# Altium integrated library WE-PD_rev15b.intlib: 278 symbols (part 1 of 3)
Pins are listed as number, name and electrical type; pins without a type are passive.

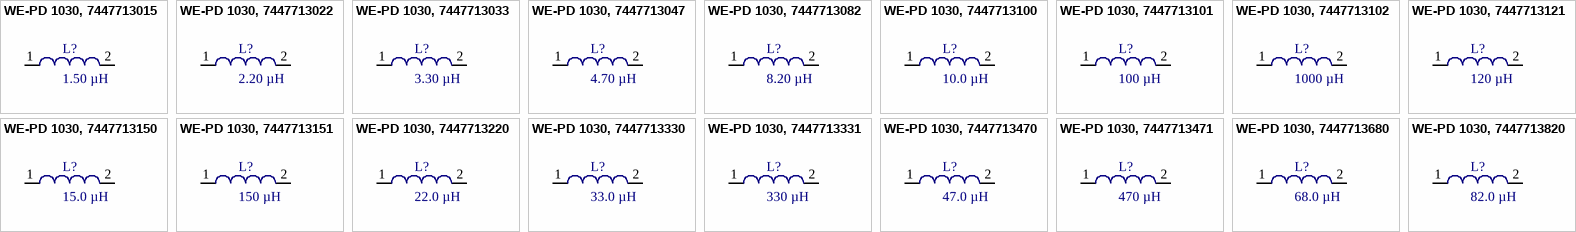
[diagram p0: symbols WE-PD 1030, 7447713015 to WE-PD 1030, 7447713820]

## WE-PD 1030, 7447713015
designator L?, comment 1.50 µH
SMD-Shielded Power Inductor WE-PD, L=1.50 µH; partNo: 7447713015; Manufacturer: Würth Elektronik eiSos GmbH; Inductance: 1.50 µH; ComponentLink1Description: Manufacturer; ComponentLink1URL: http://www.we-online.de; Created by: Christin Otto; Created Date: March 2013; ComponentLink2Description: Datasheet; ComponentLink2URL: http://www.we-online.de/katalog/media/pdf/7447713015.pdf
footprint WE-PD 1030 (SMD Inductor, 2-Leads, Body 10,0x10,0mm)
pins: 1, 2

## WE-PD 1030, 7447713022
designator L?, comment 2.20 µH
SMD-Shielded Power Inductor WE-PD, L=2.20 µH; partNo: 7447713022; Manufacturer: Würth Elektronik eiSos GmbH; Inductance: 2.20 µH; ComponentLink1Description: Manufacturer; ComponentLink1URL: http://www.we-online.de; Created by: Christin Otto; Created Date: March 2013; ComponentLink2Description: Datasheet; ComponentLink2URL: http://www.we-online.de/katalog/media/pdf/7447713022.pdf
footprint WE-PD 1030 (SMD Inductor, 2-Leads, Body 10,0x10,0mm)
pins: 1, 2

## WE-PD 1030, 7447713033
designator L?, comment 3.30 µH
SMD-Shielded Power Inductor WE-PD, L=3.30 µH; partNo: 7447713033; Manufacturer: Würth Elektronik eiSos GmbH; Inductance: 3.30 µH; ComponentLink1Description: Manufacturer; ComponentLink1URL: http://www.we-online.de; Created by: Christin Otto; Created Date: March 2013; ComponentLink2Description: Datasheet; ComponentLink2URL: http://www.we-online.de/katalog/media/pdf/7447713033.pdf
footprint WE-PD 1030 (SMD Inductor, 2-Leads, Body 10,0x10,0mm)
pins: 1, 2

## WE-PD 1030, 7447713047
designator L?, comment 4.70 µH
SMD-Shielded Power Inductor WE-PD, L=4.70 µH; partNo: 7447713047; Manufacturer: Würth Elektronik eiSos GmbH; Inductance: 4.70 µH; ComponentLink1Description: Manufacturer; ComponentLink1URL: http://www.we-online.de; Created by: Christin Otto; Created Date: March 2013; ComponentLink2Description: Datasheet; ComponentLink2URL: http://www.we-online.de/katalog/media/pdf/7447713047.pdf
footprint WE-PD 1030 (SMD Inductor, 2-Leads, Body 10,0x10,0mm)
pins: 1, 2

## WE-PD 1030, 7447713082
designator L?, comment 8.20 µH
SMD-Shielded Power Inductor WE-PD, L=8.20 µH; partNo: 7447713082; Manufacturer: Würth Elektronik eiSos GmbH; Inductance: 8.20 µH; ComponentLink1Description: Manufacturer; ComponentLink1URL: http://www.we-online.de; Created by: Christin Otto; Created Date: March 2013; ComponentLink2Description: Datasheet; ComponentLink2URL: http://www.we-online.de/katalog/media/pdf/7447713082.pdf
footprint WE-PD 1030 (SMD Inductor, 2-Leads, Body 10,0x10,0mm)
pins: 1, 2

## WE-PD 1030, 7447713100
designator L?, comment 10.0 µH
SMD-Shielded Power Inductor WE-PD, L=10.0 µH; partNo: 7447713100; Manufacturer: Würth Elektronik eiSos GmbH; Inductance: 10.0 µH; ComponentLink1Description: Manufacturer; ComponentLink1URL: http://www.we-online.de; Created by: Christin Otto; Created Date: March 2013; ComponentLink2Description: Datasheet; ComponentLink2URL: http://www.we-online.de/katalog/media/pdf/7447713100.pdf
footprint WE-PD 1030 (SMD Inductor, 2-Leads, Body 10,0x10,0mm)
pins: 1, 2

## WE-PD 1030, 7447713101
designator L?, comment 100 µH
SMD-Shielded Power Inductor WE-PD, L=100 µH; partNo: 7447713101; Manufacturer: Würth Elektronik eiSos GmbH; Inductance: 100 µH; ComponentLink1Description: Manufacturer; ComponentLink1URL: http://www.we-online.de; Created by: Christin Otto; Created Date: March 2013; ComponentLink2Description: Datasheet; ComponentLink2URL: http://www.we-online.de/katalog/media/pdf/7447713101.pdf
footprint WE-PD 1030 (SMD Inductor, 2-Leads, Body 10,0x10,0mm)
pins: 1, 2

## WE-PD 1030, 7447713102
designator L?, comment 1000 µH
SMD-Shielded Power Inductor WE-PD, L=1000 µH; partNo: 7447713102; Manufacturer: Würth Elektronik eiSos GmbH; Inductance: 1000 µH; ComponentLink1Description: Manufacturer; ComponentLink1URL: http://www.we-online.de; Created by: Christin Otto; Created Date: August 2013; ComponentLink2Description: Datasheet; ComponentLink2URL: http://www.we-online.de/katalog/media/pdf/7447713102.pdf
footprint WE-PD 1030 (SMD Inductor, 2-Leads, Body 10,0x10,0mm)
pins: 1, 2

## WE-PD 1030, 7447713121
designator L?, comment 120 µH
SMD-Shielded Power Inductor WE-PD, L=120 µH; partNo: 7447713121; Manufacturer: Würth Elektronik eiSos GmbH; Inductance: 120 µH; ComponentLink1Description: Manufacturer; ComponentLink1URL: http://www.we-online.de; Created by: Christin Otto; Created Date: March 2013; ComponentLink2Description: Datasheet; ComponentLink2URL: http://www.we-online.de/katalog/media/pdf/7447713121.pdf
footprint WE-PD 1030 (SMD Inductor, 2-Leads, Body 10,0x10,0mm)
pins: 1, 2

## WE-PD 1030, 7447713150
designator L?, comment 15.0 µH
SMD-Shielded Power Inductor WE-PD, L=15.0 µH; partNo: 7447713150; Manufacturer: Würth Elektronik eiSos GmbH; Inductance: 15.0 µH; ComponentLink1Description: Manufacturer; ComponentLink1URL: http://www.we-online.de; Created by: Christin Otto; Created Date: March 2013; ComponentLink2Description: Datasheet; ComponentLink2URL: http://www.we-online.de/katalog/media/pdf/7447713150.pdf
footprint WE-PD 1030 (SMD Inductor, 2-Leads, Body 10,0x10,0mm)
pins: 1, 2

## WE-PD 1030, 7447713151
designator L?, comment 150 µH
SMD-Shielded Power Inductor WE-PD, L=150 µH; partNo: 7447713151; Manufacturer: Würth Elektronik eiSos GmbH; Inductance: 150 µH; ComponentLink1Description: Manufacturer; ComponentLink1URL: http://www.we-online.de; Created by: Christin Otto; Created Date: March 2013; ComponentLink2Description: Datasheet; ComponentLink2URL: http://www.we-online.de/katalog/media/pdf/7447713151.pdf
footprint WE-PD 1030 (SMD Inductor, 2-Leads, Body 10,0x10,0mm)
pins: 1, 2

## WE-PD 1030, 7447713220
designator L?, comment 22.0 µH
SMD-Shielded Power Inductor WE-PD, L=22.0 µH; partNo: 7447713220; Manufacturer: Würth Elektronik eiSos GmbH; Inductance: 22.0 µH; ComponentLink1Description: Manufacturer; ComponentLink1URL: http://www.we-online.de; Created by: Christin Otto; Created Date: March 2013; ComponentLink2Description: Datasheet; ComponentLink2URL: http://www.we-online.de/katalog/media/pdf/7447713220.pdf
footprint WE-PD 1030 (SMD Inductor, 2-Leads, Body 10,0x10,0mm)
pins: 1, 2

## WE-PD 1030, 7447713330
designator L?, comment 33.0 µH
SMD-Shielded Power Inductor WE-PD, L=33.0 µH; partNo: 7447713330; Manufacturer: Würth Elektronik eiSos GmbH; Inductance: 33.0 µH; ComponentLink1Description: Manufacturer; ComponentLink1URL: http://www.we-online.de; Created by: Christin Otto; Created Date: March 2013; ComponentLink2Description: Datasheet; ComponentLink2URL: http://www.we-online.de/katalog/media/pdf/7447713330.pdf
footprint WE-PD 1030 (SMD Inductor, 2-Leads, Body 10,0x10,0mm)
pins: 1, 2

## WE-PD 1030, 7447713331
designator L?, comment 330 µH
SMD-Shielded Power Inductor WE-PD, L=330 µH; partNo: 7447713331; Manufacturer: Würth Elektronik eiSos GmbH; Inductance: 330 µH; ComponentLink1Description: Manufacturer; ComponentLink1URL: http://www.we-online.de; Created by: Christin Otto; Created Date: August 2013; ComponentLink2Description: Datasheet; ComponentLink2URL: http://www.we-online.de/katalog/media/pdf/7447713331.pdf
footprint WE-PD 1030 (SMD Inductor, 2-Leads, Body 10,0x10,0mm)
pins: 1, 2

## WE-PD 1030, 7447713470
designator L?, comment 47.0 µH
SMD-Shielded Power Inductor WE-PD, L=47.0 µH; partNo: 7447713470; Manufacturer: Würth Elektronik eiSos GmbH; Inductance: 47.0 µH; ComponentLink1Description: Manufacturer; ComponentLink1URL: http://www.we-online.de; Created by: Christin Otto; Created Date: March 2013; ComponentLink2Description: Datasheet; ComponentLink2URL: http://www.we-online.de/katalog/media/pdf/7447713470.pdf
footprint WE-PD 1030 (SMD Inductor, 2-Leads, Body 10,0x10,0mm)
pins: 1, 2

## WE-PD 1030, 7447713471
designator L?, comment 470 µH
SMD-Shielded Power Inductor WE-PD, L=470 µH; partNo: 7447713471; Manufacturer: Würth Elektronik eiSos GmbH; Inductance: 470 µH; ComponentLink1Description: Manufacturer; ComponentLink1URL: http://www.we-online.de; Created by: Christin Otto; Created Date: August 2013; ComponentLink2Description: Datasheet; ComponentLink2URL: http://www.we-online.de/katalog/media/pdf/7447713471.pdf
footprint WE-PD 1030 (SMD Inductor, 2-Leads, Body 10,0x10,0mm)
pins: 1, 2

## WE-PD 1030, 7447713680
designator L?, comment 68.0 µH
SMD-Shielded Power Inductor WE-PD, L=68.0 µH; partNo: 7447713680; Manufacturer: Würth Elektronik eiSos GmbH; Inductance: 68.0 µH; ComponentLink1Description: Manufacturer; ComponentLink1URL: http://www.we-online.de; Created by: Christin Otto; Created Date: March 2013; ComponentLink2Description: Datasheet; ComponentLink2URL: http://www.we-online.de/katalog/media/pdf/7447713680.pdf
footprint WE-PD 1030 (SMD Inductor, 2-Leads, Body 10,0x10,0mm)
pins: 1, 2

## WE-PD 1030, 7447713820
designator L?, comment 82.0 µH
SMD-Shielded Power Inductor WE-PD, L=82.0 µH; partNo: 7447713820; Manufacturer: Würth Elektronik eiSos GmbH; Inductance: 82.0 µH; ComponentLink1Description: Manufacturer; ComponentLink1URL: http://www.we-online.de; Created by: Christin Otto; Created Date: March 2013; ComponentLink2Description: Datasheet; ComponentLink2URL: http://www.we-online.de/katalog/media/pdf/7447713820.pdf
footprint WE-PD 1030 (SMD Inductor, 2-Leads, Body 10,0x10,0mm)
pins: 1, 2


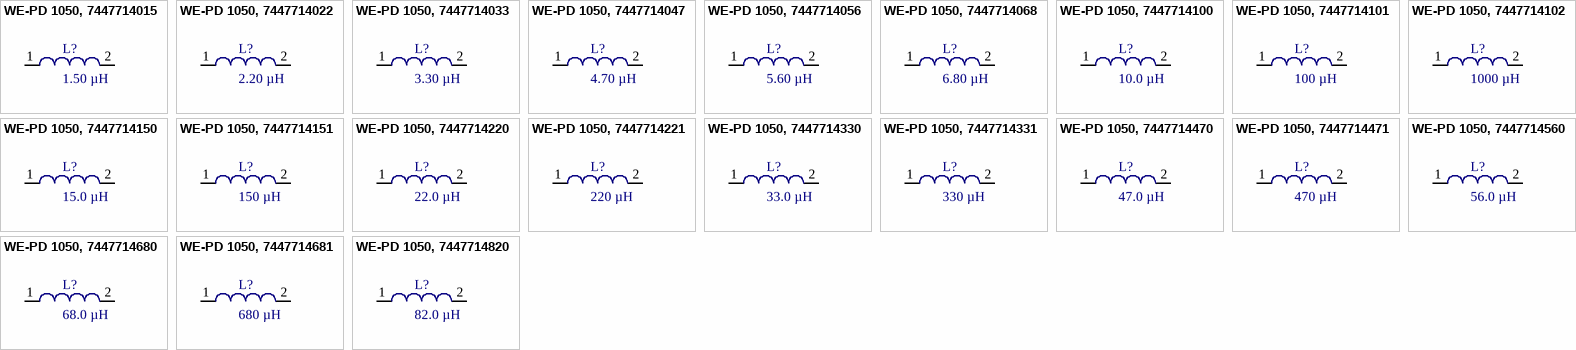
[diagram p1: symbols WE-PD 1050, 7447714015 to WE-PD 1050, 7447714820]

## WE-PD 1050, 7447714015
designator L?, comment 1.50 µH
SMD-Shielded Power Inductor WE-PD, L=1.50 µH; partNo: 7447714015; Manufacturer: Würth Elektronik eiSos GmbH; Inductance: 1.50 µH; ComponentLink1Description: Manufacturer; ComponentLink1URL: http://www.we-online.de; Created by: Christin Otto; Created Date: March 2013; ComponentLink2Description: Datasheet; ComponentLink2URL: http://www.we-online.de/katalog/media/pdf/7447714015.pdf
footprint WE-PD 1050 (SMD Inductor, 2-Leads, Body 10,0x10,0mm)
pins: 1, 2

## WE-PD 1050, 7447714022
designator L?, comment 2.20 µH
SMD-Shielded Power Inductor WE-PD, L=2.20 µH; partNo: 7447714022; Manufacturer: Würth Elektronik eiSos GmbH; Inductance: 2.20 µH; ComponentLink1Description: Manufacturer; ComponentLink1URL: http://www.we-online.de; Created by: Christin Otto; Created Date: March 2013; ComponentLink2Description: Datasheet; ComponentLink2URL: http://www.we-online.de/katalog/media/pdf/7447714022.pdf
footprint WE-PD 1050 (SMD Inductor, 2-Leads, Body 10,0x10,0mm)
pins: 1, 2

## WE-PD 1050, 7447714033
designator L?, comment 3.30 µH
SMD-Shielded Power Inductor WE-PD, L=3.30 µH; partNo: 7447714033; Manufacturer: Würth Elektronik eiSos GmbH; Inductance: 3.30 µH; ComponentLink1Description: Manufacturer; ComponentLink1URL: http://www.we-online.de; Created by: Christin Otto; Created Date: March 2013; ComponentLink2Description: Datasheet; ComponentLink2URL: http://www.we-online.de/katalog/media/pdf/7447714033.pdf
footprint WE-PD 1050 (SMD Inductor, 2-Leads, Body 10,0x10,0mm)
pins: 1, 2

## WE-PD 1050, 7447714047
designator L?, comment 4.70 µH
SMD-Shielded Power Inductor WE-PD, L=4.70 µH; partNo: 7447714047; Manufacturer: Würth Elektronik eiSos GmbH; Inductance: 4.70 µH; ComponentLink1Description: Manufacturer; ComponentLink1URL: http://www.we-online.de; Created by: Christin Otto; Created Date: March 2013; ComponentLink2Description: Datasheet; ComponentLink2URL: http://www.we-online.de/katalog/media/pdf/7447714047.pdf
footprint WE-PD 1050 (SMD Inductor, 2-Leads, Body 10,0x10,0mm)
pins: 1, 2

## WE-PD 1050, 7447714056
designator L?, comment 5.60 µH
SMD-Shielded Power Inductor WE-PD, L=5.60 µH; partNo: 7447714056; Manufacturer: Würth Elektronik eiSos GmbH; Inductance: 5.60 µH; ComponentLink1Description: Manufacturer; ComponentLink1URL: http://www.we-online.de; Created by: Christin Otto; Created Date: March 2013; ComponentLink2Description: Datasheet; ComponentLink2URL: http://www.we-online.de/katalog/media/pdf/7447714056.pdf
footprint WE-PD 1050 (SMD Inductor, 2-Leads, Body 10,0x10,0mm)
pins: 1, 2

## WE-PD 1050, 7447714068
designator L?, comment 6.80 µH
SMD-Shielded Power Inductor WE-PD, L=6.80 µH; partNo: 7447714068; Manufacturer: Würth Elektronik eiSos GmbH; Inductance: 6.80 µH; ComponentLink1Description: Manufacturer; ComponentLink1URL: http://www.we-online.de; Created by: Christin Otto; Created Date: August 2013; ComponentLink2Description: Datasheet; ComponentLink2URL: http://www.we-online.de/katalog/media/pdf/7447714068.pdf
footprint WE-PD 1050 (SMD Inductor, 2-Leads, Body 10,0x10,0mm)
pins: 1, 2

## WE-PD 1050, 7447714100
designator L?, comment 10.0 µH
SMD-Shielded Power Inductor WE-PD, L=10.0 µH; partNo: 7447714100; Manufacturer: Würth Elektronik eiSos GmbH; Inductance: 10.0 µH; ComponentLink1Description: Manufacturer; ComponentLink1URL: http://www.we-online.de; Created by: Christin Otto; Created Date: March 2013; ComponentLink2Description: Datasheet; ComponentLink2URL: http://www.we-online.de/katalog/media/pdf/7447714100.pdf
footprint WE-PD 1050 (SMD Inductor, 2-Leads, Body 10,0x10,0mm)
pins: 1, 2

## WE-PD 1050, 7447714101
designator L?, comment 100 µH
SMD-Shielded Power Inductor WE-PD, L=100 µH; partNo: 7447714101; Manufacturer: Würth Elektronik eiSos GmbH; Inductance: 100 µH; ComponentLink1Description: Manufacturer; ComponentLink1URL: http://www.we-online.de; Created by: Christin Otto; Created Date: March 2013; ComponentLink2Description: Datasheet; ComponentLink2URL: http://www.we-online.de/katalog/media/pdf/7447714101.pdf
footprint WE-PD 1050 (SMD Inductor, 2-Leads, Body 10,0x10,0mm)
pins: 1, 2

## WE-PD 1050, 7447714102
designator L?, comment 1000 µH
SMD-Shielded Power Inductor WE-PD, L=1000 µH; partNo: 7447714102; Manufacturer: Würth Elektronik eiSos GmbH; Inductance: 1000 µH; ComponentLink1Description: Manufacturer; ComponentLink1URL: http://www.we-online.de; Created by: Christin Otto; Created Date: March 2013; ComponentLink2Description: Datasheet; ComponentLink2URL: http://www.we-online.de/katalog/media/pdf/7447714102.pdf
footprint WE-PD 1050 (SMD Inductor, 2-Leads, Body 10,0x10,0mm)
pins: 1, 2

## WE-PD 1050, 7447714150
designator L?, comment 15.0 µH
SMD-Shielded Power Inductor WE-PD, L=15.0 µH; partNo: 7447714150; Manufacturer: Würth Elektronik eiSos GmbH; Inductance: 15.0 µH; ComponentLink1Description: Manufacturer; ComponentLink1URL: http://www.we-online.de; Created by: Christin Otto; Created Date: March 2013; ComponentLink2Description: Datasheet; ComponentLink2URL: http://www.we-online.de/katalog/media/pdf/7447714150.pdf
footprint WE-PD 1050 (SMD Inductor, 2-Leads, Body 10,0x10,0mm)
pins: 1, 2

## WE-PD 1050, 7447714151
designator L?, comment 150 µH
SMD-Shielded Power Inductor WE-PD, L=150 µH; partNo: 7447714151; Manufacturer: Würth Elektronik eiSos GmbH; Inductance: 150 µH; ComponentLink1Description: Manufacturer; ComponentLink1URL: http://www.we-online.de; Created by: Christin Otto; Created Date: March 2013; ComponentLink2Description: Datasheet; ComponentLink2URL: http://www.we-online.de/katalog/media/pdf/7447714151.pdf
footprint WE-PD 1050 (SMD Inductor, 2-Leads, Body 10,0x10,0mm)
pins: 1, 2

## WE-PD 1050, 7447714220
designator L?, comment 22.0 µH
SMD-Shielded Power Inductor WE-PD, L=22.0 µH; partNo: 7447714220; Manufacturer: Würth Elektronik eiSos GmbH; Inductance: 22.0 µH; ComponentLink1Description: Manufacturer; ComponentLink1URL: http://www.we-online.de; Created by: Christin Otto; Created Date: March 2013; ComponentLink2Description: Datasheet; ComponentLink2URL: http://www.we-online.de/katalog/media/pdf/7447714220.pdf
footprint WE-PD 1050 (SMD Inductor, 2-Leads, Body 10,0x10,0mm)
pins: 1, 2

## WE-PD 1050, 7447714221
designator L?, comment 220 µH
SMD-Shielded Power Inductor WE-PD, L=220 µH; partNo: 7447714221; Manufacturer: Würth Elektronik eiSos GmbH; Inductance: 220 µH; ComponentLink1Description: Manufacturer; ComponentLink1URL: http://www.we-online.de; Created by: Christin Otto; Created Date: March 2013; ComponentLink2Description: Datasheet; ComponentLink2URL: http://www.we-online.de/katalog/media/pdf/7447714221.pdf
footprint WE-PD 1050 (SMD Inductor, 2-Leads, Body 10,0x10,0mm)
pins: 1, 2

## WE-PD 1050, 7447714330
designator L?, comment 33.0 µH
SMD-Shielded Power Inductor WE-PD, L=33.0 µH; partNo: 7447714330; Manufacturer: Würth Elektronik eiSos GmbH; Inductance: 33.0 µH; ComponentLink1Description: Manufacturer; ComponentLink1URL: http://www.we-online.de; Created by: Christin Otto; Created Date: March 2013; ComponentLink2Description: Datasheet; ComponentLink2URL: http://www.we-online.de/katalog/media/pdf/7447714330.pdf
footprint WE-PD 1050 (SMD Inductor, 2-Leads, Body 10,0x10,0mm)
pins: 1, 2

## WE-PD 1050, 7447714331
designator L?, comment 330 µH
SMD-Shielded Power Inductor WE-PD, L=330 µH; partNo: 7447714331; Manufacturer: Würth Elektronik eiSos GmbH; Inductance: 330 µH; ComponentLink1Description: Manufacturer; ComponentLink1URL: http://www.we-online.de; Created by: Christin Otto; Created Date: March 2013; ComponentLink2Description: Datasheet; ComponentLink2URL: http://www.we-online.de/katalog/media/pdf/7447714331.pdf
footprint WE-PD 1050 (SMD Inductor, 2-Leads, Body 10,0x10,0mm)
pins: 1, 2

## WE-PD 1050, 7447714470
designator L?, comment 47.0 µH
SMD-Shielded Power Inductor WE-PD, L=47.0 µH; partNo: 7447714470; Manufacturer: Würth Elektronik eiSos GmbH; Inductance: 47.0 µH; ComponentLink1Description: Manufacturer; ComponentLink1URL: http://www.we-online.de; Created by: Christin Otto; Created Date: March 2013; ComponentLink2Description: Datasheet; ComponentLink2URL: http://www.we-online.de/katalog/media/pdf/7447714470.pdf
footprint WE-PD 1050 (SMD Inductor, 2-Leads, Body 10,0x10,0mm)
pins: 1, 2

## WE-PD 1050, 7447714471
designator L?, comment 470 µH
SMD-Shielded Power Inductor WE-PD, L=470 µH; partNo: 7447714471; Manufacturer: Würth Elektronik eiSos GmbH; Inductance: 470 µH; ComponentLink1Description: Manufacturer; ComponentLink1URL: http://www.we-online.de; Created by: Christin Otto; Created Date: March 2013; ComponentLink2Description: Datasheet; ComponentLink2URL: http://www.we-online.de/katalog/media/pdf/7447714471.pdf
footprint WE-PD 1050 (SMD Inductor, 2-Leads, Body 10,0x10,0mm)
pins: 1, 2

## WE-PD 1050, 7447714560
designator L?, comment 56.0 µH
SMD-Shielded Power Inductor WE-PD, L=56.0 µH; partNo: 7447714560; Manufacturer: Würth Elektronik eiSos GmbH; Inductance: 56.0 µH; ComponentLink1Description: Manufacturer; ComponentLink1URL: http://www.we-online.de; Created by: Christin Otto; Created Date: March 2013; ComponentLink2Description: Datasheet; ComponentLink2URL: http://www.we-online.de/katalog/media/pdf/7447714560.pdf
footprint WE-PD 1050 (SMD Inductor, 2-Leads, Body 10,0x10,0mm)
pins: 1, 2

## WE-PD 1050, 7447714680
designator L?, comment 68.0 µH
SMD-Shielded Power Inductor WE-PD, L=68.0 µH; partNo: 7447714680; Manufacturer: Würth Elektronik eiSos GmbH; Inductance: 68.0 µH; ComponentLink1Description: Manufacturer; ComponentLink1URL: http://www.we-online.de; Created by: Christin Otto; Created Date: March 2013; ComponentLink2Description: Datasheet; ComponentLink2URL: http://www.we-online.de/katalog/media/pdf/7447714680.pdf
footprint WE-PD 1050 (SMD Inductor, 2-Leads, Body 10,0x10,0mm)
pins: 1, 2

## WE-PD 1050, 7447714681
designator L?, comment 680 µH
SMD-Shielded Power Inductor WE-PD, L=680 µH; partNo: 7447714681; Manufacturer: Würth Elektronik eiSos GmbH; Inductance: 680 µH; ComponentLink1Description: Manufacturer; ComponentLink1URL: http://www.we-online.de; Created by: Christin Otto; Created Date: March 2013; ComponentLink2Description: Datasheet; ComponentLink2URL: http://www.we-online.de/katalog/media/pdf/7447714681.pdf
footprint WE-PD 1050 (SMD Inductor, 2-Leads, Body 10,0x10,0mm)
pins: 1, 2

## WE-PD 1050, 7447714820
designator L?, comment 82.0 µH
SMD-Shielded Power Inductor WE-PD, L=82.0 µH; partNo: 7447714820; Manufacturer: Würth Elektronik eiSos GmbH; Inductance: 82.0 µH; ComponentLink1Description: Manufacturer; ComponentLink1URL: http://www.we-online.de; Created by: Christin Otto; Created Date: March 2013; ComponentLink2Description: Datasheet; ComponentLink2URL: http://www.we-online.de/katalog/media/pdf/7447714820.pdf
footprint WE-PD 1050 (SMD Inductor, 2-Leads, Body 10,0x10,0mm)
pins: 1, 2


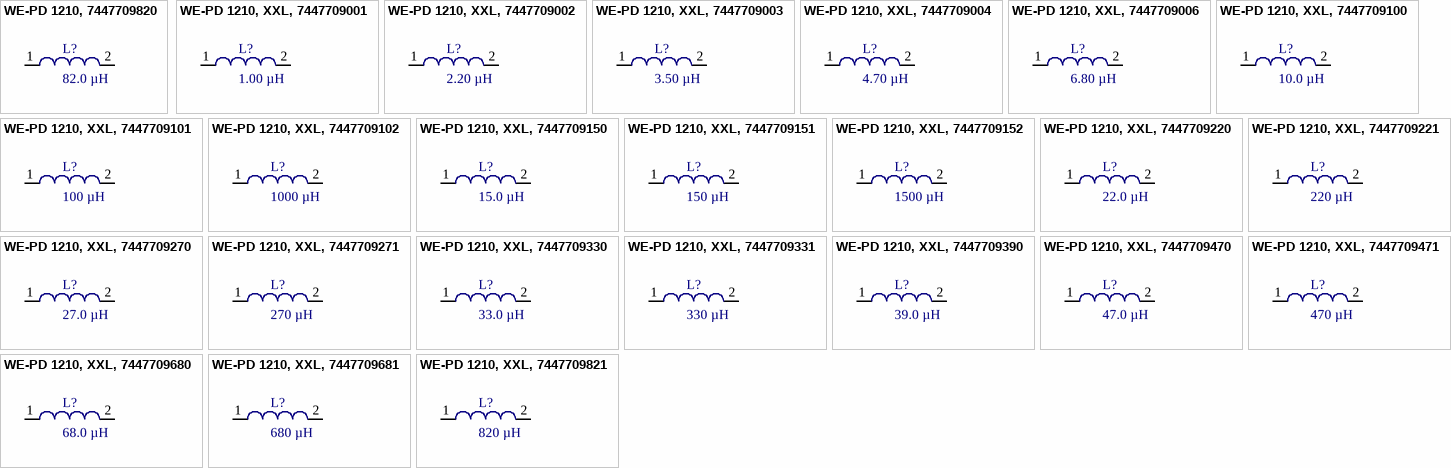
[diagram p2: symbols WE-PD 1210, 7447709820 to WE-PD 1210, XXL, 7447709821]

## WE-PD 1210, 7447709820
designator L?, comment 82.0 µH
SMD-Shielded Power Inductor WE-PD, L=82.0 µH; partNo: 7447709820; Manufacturer: Würth Elektronik eiSos GmbH; Inductance: 82.0 µH; ComponentLink1Description: Manufacturer; ComponentLink1URL: http://www.we-online.de; Created by: Christin Otto; Created Date: March 2013; ComponentLink2Description: Datasheet; ComponentLink2URL: http://www.we-online.de/katalog/media/pdf/7447709820.pdf
footprint WE-PD 1210 (SMD Inductor, 2-Leads, Body 12,0x12,0mm)
pins: 1, 2

## WE-PD 1210, XXL, 7447709001
designator L?, comment 1.00 µH
SMD-Shielded Power Inductor WE-PD, L=1.00 µH; partNo: 7447709001; Manufacturer: Würth Elektronik eiSos GmbH; Inductance: 1.00 µH; ComponentLink1Description: Manufacturer; ComponentLink1URL: http://www.we-online.de; Created by: Christin Zierenner; Created Date: June 2009; ComponentLink2Description: Datasheet; ComponentLink2URL: http://www.we-online.de/katalog/media/pdf/7447709001.pdf
footprint WE-PD 1210 (SMD Inductor, 2-Leads, Body 12,0x12,0mm)
pins: 1, 2

## WE-PD 1210, XXL, 7447709002
designator L?, comment 2.20 µH
SMD-Shielded Power Inductor WE-PD, L=2.20 µH; partNo: 7447709002; Manufacturer: Würth Elektronik eiSos GmbH; Inductance: 2.20 µH; ComponentLink1Description: Manufacturer; ComponentLink1URL: http://www.we-online.de; Created by: Christin Zierenner; Created Date: June 2009; ComponentLink2Description: Datasheet; ComponentLink2URL: http://www.we-online.de/katalog/media/pdf/7447709002.pdf
footprint WE-PD 1210 (SMD Inductor, 2-Leads, Body 12,0x12,0mm)
pins: 1, 2

## WE-PD 1210, XXL, 7447709003
designator L?, comment 3.50 µH
SMD-Shielded Power Inductor WE-PD, L=3.50 µH; partNo: 7447709003; Manufacturer: Würth Elektronik eiSos GmbH; Inductance: 3.50 µH; ComponentLink1Description: Manufacturer; ComponentLink1URL: http://www.we-online.de; Created by: Christin Zierenner; Created Date: June 2009; ComponentLink2Description: Datasheet; ComponentLink2URL: http://www.we-online.de/katalog/media/pdf/7447709003.pdf
footprint WE-PD 1210 (SMD Inductor, 2-Leads, Body 12,0x12,0mm)
pins: 1, 2

## WE-PD 1210, XXL, 7447709004
designator L?, comment 4.70 µH
SMD-Shielded Power Inductor WE-PD, L=4.70 µH; partNo: 7447709004; Manufacturer: Würth Elektronik eiSos GmbH; Inductance: 4.70 µH; ComponentLink1Description: Manufacturer; ComponentLink1URL: http://www.we-online.de; Created by: Christin Zierenner; Created Date: June 2009; ComponentLink2Description: Datasheet; ComponentLink2URL: http://www.we-online.de/katalog/media/pdf/7447709004.pdf
footprint WE-PD 1210 (SMD Inductor, 2-Leads, Body 12,0x12,0mm)
pins: 1, 2

## WE-PD 1210, XXL, 7447709006
designator L?, comment 6.80 µH
SMD-Shielded Power Inductor WE-PD, L=6.80 µH; partNo: 7447709006; Manufacturer: Würth Elektronik eiSos GmbH; Inductance: 6.80 µH; ComponentLink1Description: Manufacturer; ComponentLink1URL: http://www.we-online.de; Created by: Christin Zierenner; Created Date: June 2009; ComponentLink2Description: Datasheet; ComponentLink2URL: http://www.we-online.de/katalog/media/pdf/7447709006.pdf
footprint WE-PD 1210 (SMD Inductor, 2-Leads, Body 12,0x12,0mm)
pins: 1, 2

## WE-PD 1210, XXL, 7447709100
designator L?, comment 10.0 µH
SMD-Shielded Power Inductor WE-PD, L=10.0 µH; partNo: 7447709100; Manufacturer: Würth Elektronik eiSos GmbH; Inductance: 10.0 µH; ComponentLink1Description: Manufacturer; ComponentLink1URL: http://www.we-online.de; Created by: Christin Zierenner; Created Date: June 2009; ComponentLink2Description: Datasheet; ComponentLink2URL: http://www.we-online.de/katalog/media/pdf/7447709100.pdf
footprint WE-PD 1210 (SMD Inductor, 2-Leads, Body 12,0x12,0mm)
pins: 1, 2

## WE-PD 1210, XXL, 7447709101
designator L?, comment 100 µH
SMD-Shielded Power Inductor WE-PD, L=100 µH; partNo: 7447709101; Manufacturer: Würth Elektronik eiSos GmbH; Inductance: 100 µH; ComponentLink1Description: Manufacturer; ComponentLink1URL: http://www.we-online.de; Created by: Christin Zierenner; Created Date: June 2009; ComponentLink2Description: Datasheet; ComponentLink2URL: http://www.we-online.de/katalog/media/pdf/7447709101.pdf
footprint WE-PD 1210 (SMD Inductor, 2-Leads, Body 12,0x12,0mm)
pins: 1, 2

## WE-PD 1210, XXL, 7447709102
designator L?, comment 1000 µH
SMD-Shielded Power Inductor WE-PD, L=1000 µH; partNo: 7447709102; Manufacturer: Würth Elektronik eiSos GmbH; Inductance: 1000 µH; ComponentLink1Description: Manufacturer; ComponentLink1URL: http://www.we-online.de; Created by: Christin Zierenner; Created Date: June 2009; ComponentLink2Description: Datasheet; ComponentLink2URL: http://www.we-online.de/katalog/media/pdf/7447709102.pdf
footprint WE-PD 1210 (SMD Inductor, 2-Leads, Body 12,0x12,0mm)
pins: 1, 2

## WE-PD 1210, XXL, 7447709150
designator L?, comment 15.0 µH
SMD-Shielded Power Inductor WE-PD, L=15.0 µH; partNo: 7447709150; Manufacturer: Würth Elektronik eiSos GmbH; Inductance: 15.0 µH; ComponentLink1Description: Manufacturer; ComponentLink1URL: http://www.we-online.de; Created by: Christin Zierenner; Created Date: June 2009; ComponentLink2Description: Datasheet; ComponentLink2URL: http://www.we-online.de/katalog/media/pdf/7447709150.pdf
footprint WE-PD 1210 (SMD Inductor, 2-Leads, Body 12,0x12,0mm)
pins: 1, 2

## WE-PD 1210, XXL, 7447709151
designator L?, comment 150 µH
SMD-Shielded Power Inductor WE-PD, L=150 µH; partNo: 7447709151; Manufacturer: Würth Elektronik eiSos GmbH; Inductance: 150 µH; ComponentLink1Description: Manufacturer; ComponentLink1URL: http://www.we-online.de; Created by: Christin Zierenner; Created Date: June 2009; ComponentLink2Description: Datasheet; ComponentLink2URL: http://www.we-online.de/katalog/media/pdf/7447709151.pdf
footprint WE-PD 1210 (SMD Inductor, 2-Leads, Body 12,0x12,0mm)
pins: 1, 2

## WE-PD 1210, XXL, 7447709152
designator L?, comment 1500 µH
SMD-Shielded Power Inductor WE-PD, L=1500 µH; partNo: 7447709152; Manufacturer: Würth Elektronik eiSos GmbH; Inductance: 1500 µH; ComponentLink1Description: Manufacturer; ComponentLink1URL: http://www.we-online.de; Created by: Christin Zierenner; Created Date: June 2009; ComponentLink2Description: Datasheet; ComponentLink2URL: http://www.we-online.de/katalog/media/pdf/7447709152.pdf
footprint WE-PD 1210 (SMD Inductor, 2-Leads, Body 12,0x12,0mm)
pins: 1, 2

## WE-PD 1210, XXL, 7447709220
designator L?, comment 22.0 µH
SMD-Shielded Power Inductor WE-PD, L=22.0 µH; partNo: 7447709220; Manufacturer: Würth Elektronik eiSos GmbH; Inductance: 22.0 µH; ComponentLink1Description: Manufacturer; ComponentLink1URL: http://www.we-online.de; Created by: Christin Zierenner; Created Date: June 2009; ComponentLink2Description: Datasheet; ComponentLink2URL: http://www.we-online.de/katalog/media/pdf/7447709220.pdf
footprint WE-PD 1210 (SMD Inductor, 2-Leads, Body 12,0x12,0mm)
pins: 1, 2

## WE-PD 1210, XXL, 7447709221
designator L?, comment 220 µH
SMD-Shielded Power Inductor WE-PD, L=220 µH; partNo: 7447709221; Manufacturer: Würth Elektronik eiSos GmbH; Inductance: 220 µH; ComponentLink1Description: Manufacturer; ComponentLink1URL: http://www.we-online.de; Created by: Christin Zierenner; Created Date: June 2009; ComponentLink2Description: Datasheet; ComponentLink2URL: http://www.we-online.de/katalog/media/pdf/7447709221.pdf
footprint WE-PD 1210 (SMD Inductor, 2-Leads, Body 12,0x12,0mm)
pins: 1, 2

## WE-PD 1210, XXL, 7447709270
designator L?, comment 27.0 µH
SMD-Shielded Power Inductor WE-PD, L=27.0 µH; partNo: 7447709270; Manufacturer: Würth Elektronik eiSos GmbH; Inductance: 27.0 µH; ComponentLink1Description: Manufacturer; ComponentLink1URL: http://www.we-online.de; Created by: Christin Zierenner; Created Date: June 2009; ComponentLink2Description: Datasheet; ComponentLink2URL: http://www.we-online.de/katalog/media/pdf/7447709270.pdf
footprint WE-PD 1210 (SMD Inductor, 2-Leads, Body 12,0x12,0mm)
pins: 1, 2

## WE-PD 1210, XXL, 7447709271
designator L?, comment 270 µH
SMD-Shielded Power Inductor WE-PD, L=270 µH; partNo: 7447709271; Manufacturer: Würth Elektronik eiSos GmbH; Inductance: 270 µH; ComponentLink1Description: Manufacturer; ComponentLink1URL: http://www.we-online.de; Created by: Christin Zierenner; Created Date: June 2009; ComponentLink2Description: Datasheet; ComponentLink2URL: http://www.we-online.de/katalog/media/pdf/7447709271.pdf
footprint WE-PD 1210 (SMD Inductor, 2-Leads, Body 12,0x12,0mm)
pins: 1, 2

## WE-PD 1210, XXL, 7447709330
designator L?, comment 33.0 µH
SMD-Shielded Power Inductor WE-PD, L=33.0 µH; partNo: 7447709330; Manufacturer: Würth Elektronik eiSos GmbH; Inductance: 33.0 µH; ComponentLink1Description: Manufacturer; ComponentLink1URL: http://www.we-online.de; Created by: Christin Zierenner; Created Date: June 2009; ComponentLink2Description: Datasheet; ComponentLink2URL: http://www.we-online.de/katalog/media/pdf/7447709330.pdf
footprint WE-PD 1210 (SMD Inductor, 2-Leads, Body 12,0x12,0mm)
pins: 1, 2

## WE-PD 1210, XXL, 7447709331
designator L?, comment 330 µH
SMD-Shielded Power Inductor WE-PD, L=330 µH; partNo: 7447709331; Manufacturer: Würth Elektronik eiSos GmbH; Inductance: 330 µH; ComponentLink1Description: Manufacturer; ComponentLink1URL: http://www.we-online.de; Created by: Christin Zierenner; Created Date: June 2009; ComponentLink2Description: Datasheet; ComponentLink2URL: http://www.we-online.de/katalog/media/pdf/7447709331.pdf
footprint WE-PD 1210 (SMD Inductor, 2-Leads, Body 12,0x12,0mm)
pins: 1, 2

## WE-PD 1210, XXL, 7447709390
designator L?, comment 39.0 µH
SMD-Shielded Power Inductor WE-PD, L=39.0 µH; partNo: 7447709390; Manufacturer: Würth Elektronik eiSos GmbH; Inductance: 39.0 µH; ComponentLink1Description: Manufacturer; ComponentLink1URL: http://www.we-online.de; Created by: Christin Zierenner; Created Date: June 2009; ComponentLink2Description: Datasheet; ComponentLink2URL: http://www.we-online.de/katalog/media/pdf/7447709390.pdf
footprint WE-PD 1210 (SMD Inductor, 2-Leads, Body 12,0x12,0mm)
pins: 1, 2

## WE-PD 1210, XXL, 7447709470
designator L?, comment 47.0 µH
SMD-Shielded Power Inductor WE-PD, L=47.0 µH; partNo: 7447709470; Manufacturer: Würth Elektronik eiSos GmbH; Inductance: 47.0 µH; ComponentLink1Description: Manufacturer; ComponentLink1URL: http://www.we-online.de; Created by: Christin Zierenner; Created Date: June 2009; ComponentLink2Description: Datasheet; ComponentLink2URL: http://www.we-online.de/katalog/media/pdf/7447709470.pdf
footprint WE-PD 1210 (SMD Inductor, 2-Leads, Body 12,0x12,0mm)
pins: 1, 2

## WE-PD 1210, XXL, 7447709471
designator L?, comment 470 µH
SMD-Shielded Power Inductor WE-PD, L=470 µH; partNo: 7447709471; Manufacturer: Würth Elektronik eiSos GmbH; Inductance: 470 µH; ComponentLink1Description: Manufacturer; ComponentLink1URL: http://www.we-online.de; Created by: Christin Zierenner; Created Date: June 2009; ComponentLink2Description: Datasheet; ComponentLink2URL: http://www.we-online.de/katalog/media/pdf/7447709471.pdf
footprint WE-PD 1210 (SMD Inductor, 2-Leads, Body 12,0x12,0mm)
pins: 1, 2

## WE-PD 1210, XXL, 7447709680
designator L?, comment 68.0 µH
SMD-Shielded Power Inductor WE-PD, L=68.0 µH; partNo: 7447709680; Manufacturer: Würth Elektronik eiSos GmbH; Inductance: 68.0 µH; ComponentLink1Description: Manufacturer; ComponentLink1URL: http://www.we-online.de; Created by: Christin Zierenner; Created Date: June 2009; ComponentLink2Description: Datasheet; ComponentLink2URL: http://www.we-online.de/katalog/media/pdf/7447709680.pdf
footprint WE-PD 1210 (SMD Inductor, 2-Leads, Body 12,0x12,0mm)
pins: 1, 2

## WE-PD 1210, XXL, 7447709681
designator L?, comment 680 µH
SMD-Shielded Power Inductor WE-PD, L=680 µH; partNo: 7447709681; Manufacturer: Würth Elektronik eiSos GmbH; Inductance: 680 µH; ComponentLink1Description: Manufacturer; ComponentLink1URL: http://www.we-online.de; Created by: Christin Zierenner; Created Date: June 2009; ComponentLink2Description: Datasheet; ComponentLink2URL: http://www.we-online.de/katalog/media/pdf/7447709681.pdf
footprint WE-PD 1210 (SMD Inductor, 2-Leads, Body 12,0x12,0mm)
pins: 1, 2

## WE-PD 1210, XXL, 7447709821
designator L?, comment 820 µH
SMD-Shielded Power Inductor WE-PD, L=820 µH; partNo: 7447709821; Manufacturer: Würth Elektronik eiSos GmbH; Inductance: 820 µH; ComponentLink1Description: Manufacturer; ComponentLink1URL: http://www.we-online.de; Created by: Christin Zierenner; Created Date: June 2009; ComponentLink2Description: Datasheet; ComponentLink2URL: http://www.we-online.de/katalog/media/pdf/7447709821.pdf
footprint WE-PD 1210 (SMD Inductor, 2-Leads, Body 12,0x12,0mm)
pins: 1, 2


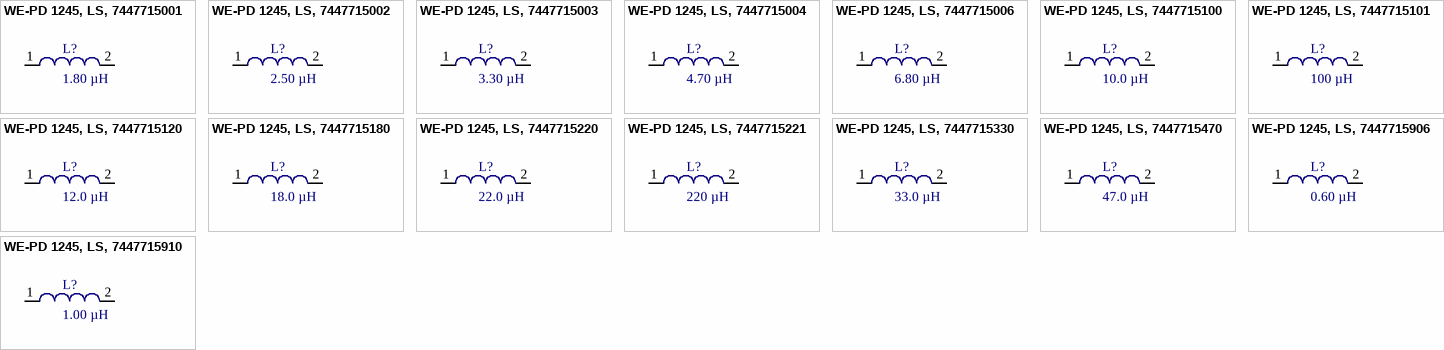
[diagram p3: symbols WE-PD 1245, LS, 7447715001 to WE-PD 1245, LS, 7447715910]

## WE-PD 1245, LS, 7447715001
designator L?, comment 1.80 µH
SMD-Shielded Power Inductor WE-PD, L=1.80 µH; partNo: 7447715001; Manufacturer: Würth Elektronik eiSos GmbH; Inductance: 1.80 µH; ComponentLink1Description: Manufacturer; ComponentLink1URL: http://www.we-online.de; Created by: Christin Zierenner; Created Date: July 2009; ComponentLink2Description: Datasheet; ComponentLink2URL: http://www.we-online.de/katalog/media/pdf/7447715001.pdf
footprint WE-PD 1245 (SMD Inductor, 2-Leads, Body 12,0x12,0mm)
pins: 1, 2

## WE-PD 1245, LS, 7447715002
designator L?, comment 2.50 µH
SMD-Shielded Power Inductor WE-PD, L=2.50 µH; partNo: 7447715002; Manufacturer: Würth Elektronik eiSos GmbH; Inductance: 2.50 µH; ComponentLink1Description: Manufacturer; ComponentLink1URL: http://www.we-online.de; Created by: Christin Zierenner; Created Date: July 2009; ComponentLink2Description: Datasheet; ComponentLink2URL: http://www.we-online.de/katalog/media/pdf/7447715002.pdf
footprint WE-PD 1245 (SMD Inductor, 2-Leads, Body 12,0x12,0mm)
pins: 1, 2

## WE-PD 1245, LS, 7447715003
designator L?, comment 3.30 µH
SMD-Shielded Power Inductor WE-PD, L=3.30 µH; partNo: 7447715003; Manufacturer: Würth Elektronik eiSos GmbH; Inductance: 3.30 µH; ComponentLink1Description: Manufacturer; ComponentLink1URL: http://www.we-online.de; Created by: Christin Zierenner; Created Date: July 2009; ComponentLink2Description: Datasheet; ComponentLink2URL: http://www.we-online.de/katalog/media/pdf/7447715003.pdf
footprint WE-PD 1245 (SMD Inductor, 2-Leads, Body 12,0x12,0mm)
pins: 1, 2

## WE-PD 1245, LS, 7447715004
designator L?, comment 4.70 µH
SMD-Shielded Power Inductor WE-PD, L=4.70 µH; partNo: 7447715004; Manufacturer: Würth Elektronik eiSos GmbH; Inductance: 4.70 µH; ComponentLink1Description: Manufacturer; ComponentLink1URL: http://www.we-online.de; Created by: Christin Zierenner; Created Date: July 2009; ComponentLink2Description: Datasheet; ComponentLink2URL: http://www.we-online.de/katalog/media/pdf/7447715004.pdf
footprint WE-PD 1245 (SMD Inductor, 2-Leads, Body 12,0x12,0mm)
pins: 1, 2

## WE-PD 1245, LS, 7447715006
designator L?, comment 6.80 µH
SMD-Shielded Power Inductor WE-PD, L=6.80 µH; partNo: 7447715006; Manufacturer: Würth Elektronik eiSos GmbH; Inductance: 6.80 µH; ComponentLink1Description: Manufacturer; ComponentLink1URL: http://www.we-online.de; Created by: Christin Zierenner; Created Date: July 2009; ComponentLink2Description: Datasheet; ComponentLink2URL: http://www.we-online.de/katalog/media/pdf/7447715006.pdf
footprint WE-PD 1245 (SMD Inductor, 2-Leads, Body 12,0x12,0mm)
pins: 1, 2

## WE-PD 1245, LS, 7447715100
designator L?, comment 10.0 µH
SMD-Shielded Power Inductor WE-PD, L=10.0 µH; partNo: 7447715100; Manufacturer: Würth Elektronik eiSos GmbH; Inductance: 10.0 µH; ComponentLink1Description: Manufacturer; ComponentLink1URL: http://www.we-online.de; Created by: Christin Zierenner; Created Date: July 2009; ComponentLink2Description: Datasheet; ComponentLink2URL: http://www.we-online.de/katalog/media/pdf/7447715100.pdf
footprint WE-PD 1245 (SMD Inductor, 2-Leads, Body 12,0x12,0mm)
pins: 1, 2

## WE-PD 1245, LS, 7447715101
designator L?, comment 100 µH
SMD-Shielded Power Inductor WE-PD, L=100 µH; partNo: 7447715101; Manufacturer: Würth Elektronik eiSos GmbH; Inductance: 100 µH; ComponentLink1Description: Manufacturer; ComponentLink1URL: http://www.we-online.de; Created by: Christin Zierenner; Created Date: July 2009; ComponentLink2Description: Datasheet; ComponentLink2URL: http://www.we-online.de/katalog/media/pdf/7447715101.pdf
footprint WE-PD 1245 (SMD Inductor, 2-Leads, Body 12,0x12,0mm)
pins: 1, 2

## WE-PD 1245, LS, 7447715120
designator L?, comment 12.0 µH
SMD-Shielded Power Inductor WE-PD, L=12.0 µH; partNo: 7447715120; Manufacturer: Würth Elektronik eiSos GmbH; Inductance: 12.0 µH; ComponentLink1Description: Manufacturer; ComponentLink1URL: http://www.we-online.de; Created by: Christin Zierenner; Created Date: July 2009; ComponentLink2Description: Datasheet; ComponentLink2URL: http://www.we-online.de/katalog/media/pdf/7447715120.pdf
footprint WE-PD 1245 (SMD Inductor, 2-Leads, Body 12,0x12,0mm)
pins: 1, 2

## WE-PD 1245, LS, 7447715180
designator L?, comment 18.0 µH
SMD-Shielded Power Inductor WE-PD, L=18.0 µH; partNo: 7447715180; Manufacturer: Würth Elektronik eiSos GmbH; Inductance: 18.0 µH; ComponentLink1Description: Manufacturer; ComponentLink1URL: http://www.we-online.de; Created by: Christin Zierenner; Created Date: July 2009; ComponentLink2Description: Datasheet; ComponentLink2URL: http://www.we-online.de/katalog/media/pdf/7447715180.pdf
footprint WE-PD 1245 (SMD Inductor, 2-Leads, Body 12,0x12,0mm)
pins: 1, 2

## WE-PD 1245, LS, 7447715220
designator L?, comment 22.0 µH
SMD-Shielded Power Inductor WE-PD, L=22.0 µH; partNo: 7447715220; Manufacturer: Würth Elektronik eiSos GmbH; Inductance: 22.0 µH; ComponentLink1Description: Manufacturer; ComponentLink1URL: http://www.we-online.de; Created by: Christin Zierenner; Created Date: July 2009; ComponentLink2Description: Datasheet; ComponentLink2URL: http://www.we-online.de/katalog/media/pdf/7447715220.pdf
footprint WE-PD 1245 (SMD Inductor, 2-Leads, Body 12,0x12,0mm)
pins: 1, 2

## WE-PD 1245, LS, 7447715221
designator L?, comment 220 µH
SMD-Shielded Power Inductor WE-PD, L=220 µH; partNo: 7447715221; Manufacturer: Würth Elektronik eiSos GmbH; Inductance: 220 µH; ComponentLink1Description: Manufacturer; ComponentLink1URL: http://www.we-online.de; Created by: Christin Zierenner; Created Date: July 2009; ComponentLink2Description: Datasheet; ComponentLink2URL: http://www.we-online.de/katalog/media/pdf/7447715221.pdf
footprint WE-PD 1245 (SMD Inductor, 2-Leads, Body 12,0x12,0mm)
pins: 1, 2

## WE-PD 1245, LS, 7447715330
designator L?, comment 33.0 µH
SMD-Shielded Power Inductor WE-PD, L=33.0 µH; partNo: 7447715330; Manufacturer: Würth Elektronik eiSos GmbH; Inductance: 33.0 µH; ComponentLink1Description: Manufacturer; ComponentLink1URL: http://www.we-online.de; Created by: Christin Zierenner; Created Date: July 2009; ComponentLink2Description: Datasheet; ComponentLink2URL: http://www.we-online.de/katalog/media/pdf/7447715330.pdf
footprint WE-PD 1245 (SMD Inductor, 2-Leads, Body 12,0x12,0mm)
pins: 1, 2

## WE-PD 1245, LS, 7447715470
designator L?, comment 47.0 µH
SMD-Shielded Power Inductor WE-PD, L=47.0 µH; partNo: 7447715470; Manufacturer: Würth Elektronik eiSos GmbH; Inductance: 47.0 µH; ComponentLink1Description: Manufacturer; ComponentLink1URL: http://www.we-online.de; Created by: Christin Zierenner; Created Date: July 2009; ComponentLink2Description: Datasheet; ComponentLink2URL: http://www.we-online.de/katalog/media/pdf/7447715470.pdf
footprint WE-PD 1245 (SMD Inductor, 2-Leads, Body 12,0x12,0mm)
pins: 1, 2

## WE-PD 1245, LS, 7447715906
designator L?, comment 0.60 µH
SMD-Shielded Power Inductor WE-PD, L=0.60 µH; partNo: 7447715906; Manufacturer: Würth Elektronik eiSos GmbH; Inductance: 0.60 µH; ComponentLink1Description: Manufacturer; ComponentLink1URL: http://www.we-online.de; Created by: Christin Zierenner; Created Date: July 2009; ComponentLink2Description: Datasheet; ComponentLink2URL: http://www.we-online.de/katalog/media/pdf/7447715906.pdf
footprint WE-PD 1245 (SMD Inductor, 2-Leads, Body 12,0x12,0mm)
pins: 1, 2

## WE-PD 1245, LS, 7447715910
designator L?, comment 1.00 µH
SMD-Shielded Power Inductor WE-PD, L=1.00 µH; partNo: 7447715910; Manufacturer: Würth Elektronik eiSos GmbH; Inductance: 1.00 µH; ComponentLink1Description: Manufacturer; ComponentLink1URL: http://www.we-online.de; Created by: Christin Zierenner; Created Date: July 2009; ComponentLink2Description: Datasheet; ComponentLink2URL: http://www.we-online.de/katalog/media/pdf/7447715910.pdf
footprint WE-PD 1245 (SMD Inductor, 2-Leads, Body 12,0x12,0mm)
pins: 1, 2


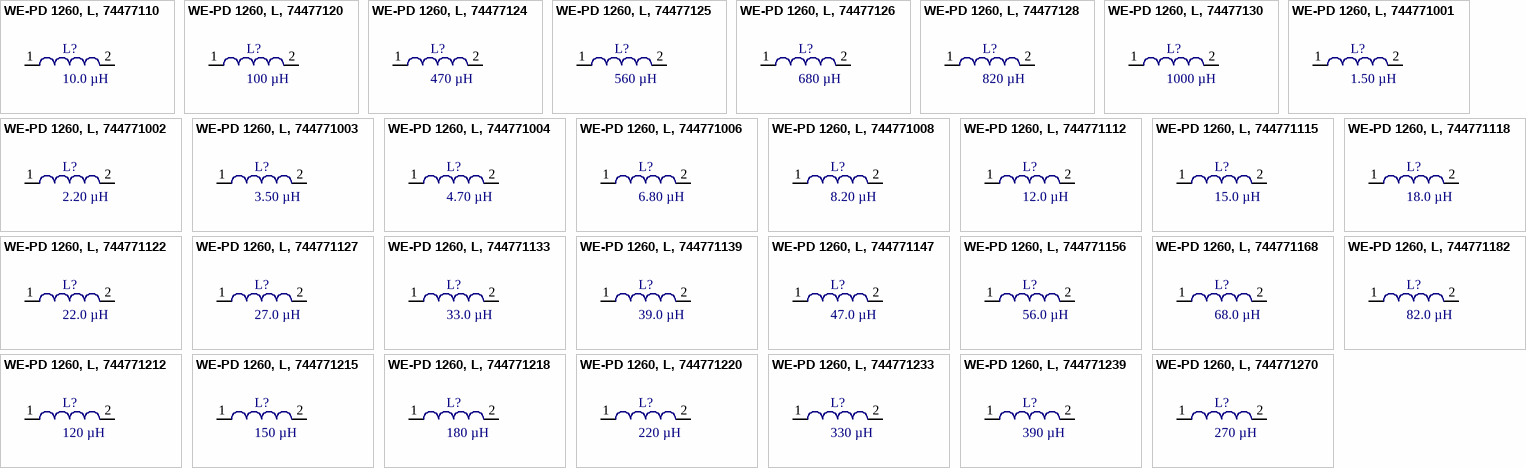
[diagram p4: symbols WE-PD 1260, L, 74477110 to WE-PD 1260, L, 744771270]

## WE-PD 1260, L, 74477110
designator L?, comment 10.0 µH
SMD-Shielded Power Inductor WE-PD, L=10.0 µH; partNo: 74477110; Manufacturer: Würth Elektronik eiSos GmbH; Inductance: 10.0 µH; ComponentLink1Description: Manufacturer; ComponentLink1URL: http://www.we-online.de; Created by: Christin Zierenner; Created Date: August 2009; ComponentLink2Description: Datasheet; ComponentLink2URL: http://www.we-online.de/katalog/media/pdf/74477110.pdf
footprint WE-PD 1260 (SMD Inductor, 2-Leads, Body 12,0x12,0mm)
pins: 1, 2

## WE-PD 1260, L, 74477120
designator L?, comment 100 µH
SMD-Shielded Power Inductor WE-PD, L=100 µH; partNo: 74477120; Manufacturer: Würth Elektronik eiSos GmbH; Inductance: 100 µH; ComponentLink1Description: Manufacturer; ComponentLink1URL: http://www.we-online.de; Created by: Christin Zierenner; Created Date: August 2009; ComponentLink2Description: Datasheet; ComponentLink2URL: http://www.we-online.de/katalog/media/pdf/74477120.pdf
footprint WE-PD 1260 (SMD Inductor, 2-Leads, Body 12,0x12,0mm)
pins: 1, 2

## WE-PD 1260, L, 74477124
designator L?, comment 470 µH
SMD-Shielded Power Inductor WE-PD, L=470 µH; partNo: 74477124; Manufacturer: Würth Elektronik eiSos GmbH; Inductance: 470 µH; ComponentLink1Description: Manufacturer; ComponentLink1URL: http://www.we-online.de; Created by: Christin Zierenner; Created Date: August 2009; ComponentLink2Description: Datasheet; ComponentLink2URL: http://www.we-online.de/katalog/media/pdf/74477124.pdf
footprint WE-PD 1260 (SMD Inductor, 2-Leads, Body 12,0x12,0mm)
pins: 1, 2

## WE-PD 1260, L, 74477125
designator L?, comment 560 µH
SMD-Shielded Power Inductor WE-PD, L=560 µH; partNo: 74477125; Manufacturer: Würth Elektronik eiSos GmbH; Inductance: 560 µH; ComponentLink1Description: Manufacturer; ComponentLink1URL: http://www.we-online.de; Created by: Christin Zierenner; Created Date: August 2009; ComponentLink2Description: Datasheet; ComponentLink2URL: http://www.we-online.de/katalog/media/pdf/74477125.pdf
footprint WE-PD 1260 (SMD Inductor, 2-Leads, Body 12,0x12,0mm)
pins: 1, 2

## WE-PD 1260, L, 74477126
designator L?, comment 680 µH
SMD-Shielded Power Inductor WE-PD, L=680 µH; partNo: 74477126; Manufacturer: Würth Elektronik eiSos GmbH; Inductance: 680 µH; ComponentLink1Description: Manufacturer; ComponentLink1URL: http://www.we-online.de; Created by: Christin Zierenner; Created Date: August 2009; ComponentLink2Description: Datasheet; ComponentLink2URL: http://www.we-online.de/katalog/media/pdf/74477126.pdf
footprint WE-PD 1260 (SMD Inductor, 2-Leads, Body 12,0x12,0mm)
pins: 1, 2

## WE-PD 1260, L, 74477128
designator L?, comment 820 µH
SMD-Shielded Power Inductor WE-PD, L=820 µH; partNo: 74477128; Manufacturer: Würth Elektronik eiSos GmbH; Inductance: 820 µH; ComponentLink1Description: Manufacturer; ComponentLink1URL: http://www.we-online.de; Created by: Christin Zierenner; Created Date: August 2009; ComponentLink2Description: Datasheet; ComponentLink2URL: http://www.we-online.de/katalog/media/pdf/74477128.pdf
footprint WE-PD 1260 (SMD Inductor, 2-Leads, Body 12,0x12,0mm)
pins: 1, 2

## WE-PD 1260, L, 74477130
designator L?, comment 1000 µH
SMD-Shielded Power Inductor WE-PD, L=1000 µH; partNo: 74477130; Manufacturer: Würth Elektronik eiSos GmbH; Inductance: 1000 µH; ComponentLink1Description: Manufacturer; ComponentLink1URL: http://www.we-online.de; Created by: Christin Zierenner; Created Date: August 2009; ComponentLink2Description: Datasheet; ComponentLink2URL: http://www.we-online.de/katalog/media/pdf/74477130.pdf
footprint WE-PD 1260 (SMD Inductor, 2-Leads, Body 12,0x12,0mm)
pins: 1, 2

## WE-PD 1260, L, 744771001
designator L?, comment 1.50 µH
SMD-Shielded Power Inductor WE-PD, L=1.50 µH; partNo: 744771001; Manufacturer: Würth Elektronik eiSos GmbH; Inductance: 1.50 µH; ComponentLink1Description: Manufacturer; ComponentLink1URL: http://www.we-online.de; Created by: Christin Zierenner; Created Date: August 2009; ComponentLink2Description: Datasheet; ComponentLink2URL: http://www.we-online.de/katalog/media/pdf/744771001.pdf
footprint WE-PD 1260 (SMD Inductor, 2-Leads, Body 12,0x12,0mm)
pins: 1, 2

## WE-PD 1260, L, 744771002
designator L?, comment 2.20 µH
SMD-Shielded Power Inductor WE-PD, L=2.20 µH; partNo: 744771002; Manufacturer: Würth Elektronik eiSos GmbH; Inductance: 2.20 µH; ComponentLink1Description: Manufacturer; ComponentLink1URL: http://www.we-online.de; Created by: Christin Zierenner; Created Date: August 2009; ComponentLink2Description: Datasheet; ComponentLink2URL: http://www.we-online.de/katalog/media/pdf/744771002.pdf
footprint WE-PD 1260 (SMD Inductor, 2-Leads, Body 12,0x12,0mm)
pins: 1, 2

## WE-PD 1260, L, 744771003
designator L?, comment 3.50 µH
SMD-Shielded Power Inductor WE-PD, L=3.50 µH; partNo: 744771003; Manufacturer: Würth Elektronik eiSos GmbH; Inductance: 3.50 µH; ComponentLink1Description: Manufacturer; ComponentLink1URL: http://www.we-online.de; Created by: Christin Zierenner; Created Date: August 2009; ComponentLink2Description: Datasheet; ComponentLink2URL: http://www.we-online.de/katalog/media/pdf/744771003.pdf
footprint WE-PD 1260 (SMD Inductor, 2-Leads, Body 12,0x12,0mm)
pins: 1, 2

## WE-PD 1260, L, 744771004
designator L?, comment 4.70 µH
SMD-Shielded Power Inductor WE-PD, L=4.70 µH; partNo: 744771004; Manufacturer: Würth Elektronik eiSos GmbH; Inductance: 4.70 µH; ComponentLink1Description: Manufacturer; ComponentLink1URL: http://www.we-online.de; Created by: Christin Zierenner; Created Date: August 2009; ComponentLink2Description: Datasheet; ComponentLink2URL: http://www.we-online.de/katalog/media/pdf/744771004.pdf
footprint WE-PD 1260 (SMD Inductor, 2-Leads, Body 12,0x12,0mm)
pins: 1, 2

## WE-PD 1260, L, 744771006
designator L?, comment 6.80 µH
SMD-Shielded Power Inductor WE-PD, L=6.80 µH; partNo: 744771006; Manufacturer: Würth Elektronik eiSos GmbH; Inductance: 6.80 µH; ComponentLink1Description: Manufacturer; ComponentLink1URL: http://www.we-online.de; Created by: Christin Zierenner; Created Date: August 2009; ComponentLink2Description: Datasheet; ComponentLink2URL: http://www.we-online.de/katalog/media/pdf/744771006.pdf
footprint WE-PD 1260 (SMD Inductor, 2-Leads, Body 12,0x12,0mm)
pins: 1, 2

## WE-PD 1260, L, 744771008
designator L?, comment 8.20 µH
SMD-Shielded Power Inductor WE-PD, L=8.20 µH; partNo: 744771008; Manufacturer: Würth Elektronik eiSos GmbH; Inductance: 8.20 µH; ComponentLink1Description: Manufacturer; ComponentLink1URL: http://www.we-online.de; Created by: Christin Zierenner; Created Date: August 2009; ComponentLink2Description: Datasheet; ComponentLink2URL: http://www.we-online.de/katalog/media/pdf/744771008.pdf
footprint WE-PD 1260 (SMD Inductor, 2-Leads, Body 12,0x12,0mm)
pins: 1, 2

## WE-PD 1260, L, 744771112
designator L?, comment 12.0 µH
SMD-Shielded Power Inductor WE-PD, L=12.0 µH; partNo: 744771112; Manufacturer: Würth Elektronik eiSos GmbH; Inductance: 12.0 µH; ComponentLink1Description: Manufacturer; ComponentLink1URL: http://www.we-online.de; Created by: Christin Zierenner; Created Date: August 2009; ComponentLink2Description: Datasheet; ComponentLink2URL: http://www.we-online.de/katalog/media/pdf/744771112.pdf
footprint WE-PD 1260 (SMD Inductor, 2-Leads, Body 12,0x12,0mm)
pins: 1, 2

## WE-PD 1260, L, 744771115
designator L?, comment 15.0 µH
SMD-Shielded Power Inductor WE-PD, L=15.0 µH; partNo: 744771115; Manufacturer: Würth Elektronik eiSos GmbH; Inductance: 15.0 µH; ComponentLink1Description: Manufacturer; ComponentLink1URL: http://www.we-online.de; Created by: Christin Zierenner; Created Date: August 2009; ComponentLink2Description: Datasheet; ComponentLink2URL: http://www.we-online.de/katalog/media/pdf/744771115.pdf
footprint WE-PD 1260 (SMD Inductor, 2-Leads, Body 12,0x12,0mm)
pins: 1, 2

## WE-PD 1260, L, 744771118
designator L?, comment 18.0 µH
SMD-Shielded Power Inductor WE-PD, L=18.0 µH; partNo: 744771118; Manufacturer: Würth Elektronik eiSos GmbH; Inductance: 18.0 µH; ComponentLink1Description: Manufacturer; ComponentLink1URL: http://www.we-online.de; Created by: Christin Zierenner; Created Date: August 2009; ComponentLink2Description: Datasheet; ComponentLink2URL: http://www.we-online.de/katalog/media/pdf/744771118.pdf
footprint WE-PD 1260 (SMD Inductor, 2-Leads, Body 12,0x12,0mm)
pins: 1, 2

## WE-PD 1260, L, 744771122
designator L?, comment 22.0 µH
SMD-Shielded Power Inductor WE-PD, L=22.0 µH; partNo: 744771122; Manufacturer: Würth Elektronik eiSos GmbH; Inductance: 22.0 µH; ComponentLink1Description: Manufacturer; ComponentLink1URL: http://www.we-online.de; Created by: Christin Zierenner; Created Date: August 2009; ComponentLink2Description: Datasheet; ComponentLink2URL: http://www.we-online.de/katalog/media/pdf/744771122.pdf
footprint WE-PD 1260 (SMD Inductor, 2-Leads, Body 12,0x12,0mm)
pins: 1, 2